# Altium footprint library PcbLib2.PcbLib: 16 footprints
Each footprint in its own frame and in the unit in brackets; x right, y up, seen from the top. Pads: shape width x height; smd on the part's side, far side on the other; paste and mask are expansions set on the pad; w line width, h text height; cw(c..) or ccw(c..) is an arc to the next point about the centre after c.
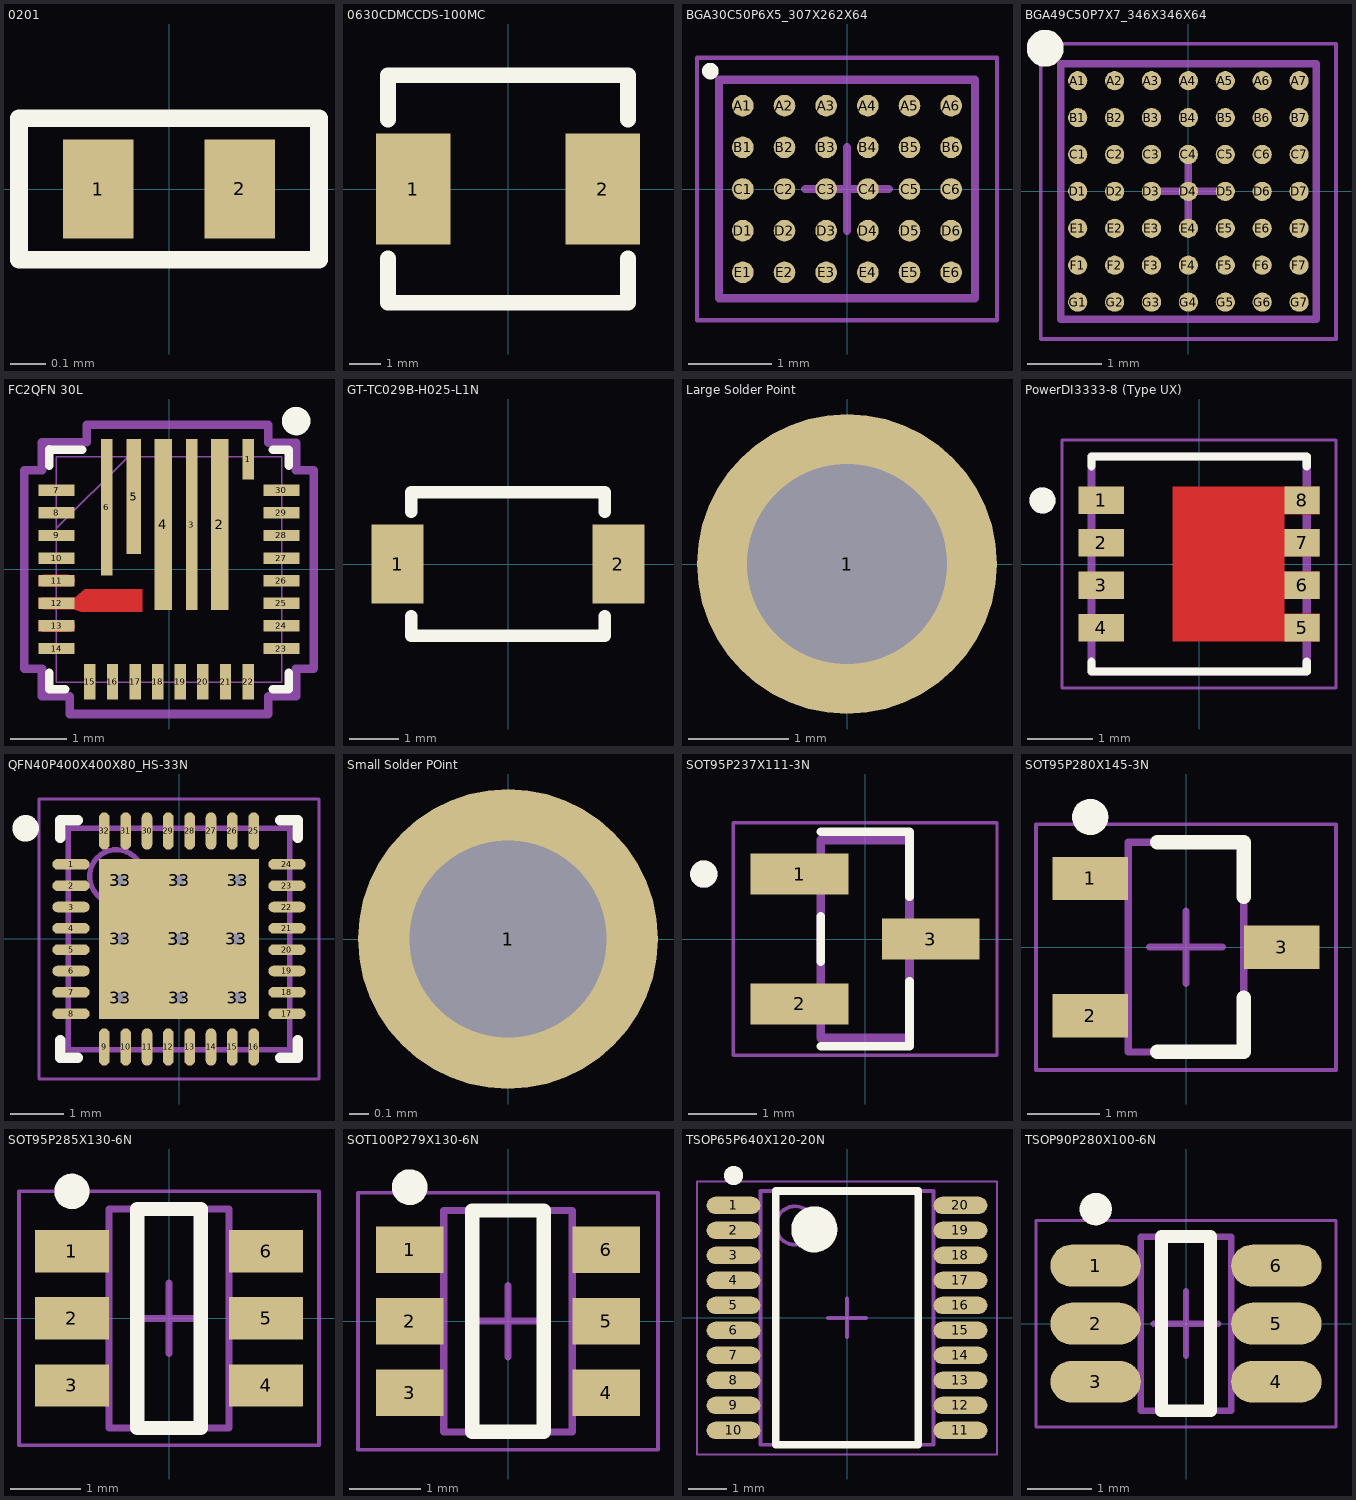
[diagram p0: the footprints below, top view; thin cyan lines are the x and y axes]

## 0201 [mm] "0201 Diode"
pads (2):
  rect 0.2x0.28 smd paste-2 mask+0.05: 1(-0.2,0) 2(0.2,0)
Top Overlay:
  lines w0.05: -0.425,-0.2 -0.425,0.2 0.425,0.2 0.425,-0.2 -0.425,-0.2
Top Paste:
  region: -0.329,0 -0.329,-0.025 -0.31,-0.072 -0.274,-0.108 -0.227,-0.127 -0.202,-0.127 -0.177,-0.127 -0.13,-0.108 -0.094,-0.072 -0.075,-0.025 -0.075,0 -0.075,0.025 -0.094,0.072 -0.13,0.108 -0.177,0.127 -0.202,0.127 -0.227,0.127 -0.274,0.108 -0.31,0.072 -0.329,0.025
  region: 0.073,-0.002 0.073,-0.027 0.092,-0.074 0.128,-0.11 0.175,-0.129 0.2,-0.129 0.225,-0.129 0.272,-0.11 0.308,-0.074 0.327,-0.027 0.327,-0.002 0.327,0.023 0.308,0.07 0.272,0.106 0.225,0.125 0.2,0.125 0.175,0.125 0.128,0.106 0.092,0.07 0.073,0.023
3D body: height 0.32, standoff 0, extent -0.312,-0.162 0.313,0.163

## 0630CDMCCDS-100MC [mm] "SMD,7x6.6x2.8mm"
pads (2):
  rect 2.35x3.5 smd: 1(-3,0) 2(3,0)
Top Overlay:
  lines w0.5: -3.8,-2.2 -3.8,-3.6 3.8,-3.6 3.8,-2.2 ; -3.8,2.2 -3.8,3.6 3.8,3.6 3.8,2.2
3D body: height 3, standoff 0, extent -3.5,-3.3 3.5,3.3

## BGA30C50P6X5_307X262X64 [mm] "BGA, 30-Leads, Body 3.07x2.62mmx0.64mm, Pitch 0.50mm"
height 0.64
pads (30):
  round 0.26 smd: A1(-1.25,1) A2(-0.75,1) A3(-0.25,1) A4(0.25,1) A5(0.75,1) A6(1.25,1) B1(-1.25,0.5) B2(-0.75,0.5) B3(-0.25,0.5) B4(0.25,0.5) B5(0.75,0.5) B6(1.25,0.5) C1(-1.25,0) C2(-0.75,0) C3(-0.25,0) C4(0.25,0) C5(0.75,0) C6(1.25,0) D1(-1.25,-0.5) D2(-0.75,-0.5) D3(-0.25,-0.5) D4(0.25,-0.5) D5(0.75,-0.5) D6(1.25,-0.5) E1(-1.25,-1) E2(-0.75,-1) E3(-0.25,-1) E4(0.25,-1) E5(0.75,-1) E6(1.25,-1)
Top Overlay:
  circle w0.1: c-1.64,1.415 r0.05
Mechanical 13:
  lines w0.1: -1.535,-1.31 1.535,-1.31 1.535,1.31 -1.535,1.31 -1.535,-1.31
Mechanical 15:
  lines w0.05: -1.8,-1.575 1.8,-1.575 1.8,1.575 -1.8,1.575 -1.8,-1.575
  lines w0.1: -0.5,0 0.5,0 ; 0,-0.5 0,0.5
3D body: height 0.64, standoff 0.24, extent -1.535,-1.31 1.535,1.31

## BGA49C50P7X7_346X346X64 [mm] "BGA, 49-Leads, Body 3.46x3.46mmx0.64mm, Pitch 0.50mm"
height 0.64
pads (49):
  round 0.26 smd: A1(-1.5,1.5) A2(-1,1.5) A3(-0.5,1.5) A4(0,1.5) A5(0.5,1.5) A6(1,1.5) A7(1.5,1.5) B1(-1.5,1) B2(-1,1) B3(-0.5,1) B4(0,1) B5(0.5,1) B6(1,1) B7(1.5,1) C1(-1.5,0.5) C2(-1,0.5) C3(-0.5,0.5) C4(0,0.5) C5(0.5,0.5) C6(1,0.5) C7(1.5,0.5) D1(-1.5,0) D2(-1,0) D3(-0.5,0) D4(0,0) D5(0.5,0) D6(1,0) D7(1.5,0) E1(-1.5,-0.5) E2(-1,-0.5) E3(-0.5,-0.5) E4(0,-0.5) E5(0.5,-0.5) E6(1,-0.5) E7(1.5,-0.5) F1(-1.5,-1) F2(-1,-1) F3(-0.5,-1) F4(0,-1) F5(0.5,-1) F6(1,-1) F7(1.5,-1) G1(-1.5,-1.5) G2(-1,-1.5) G3(-0.5,-1.5) G4(0,-1.5) G5(0.5,-1.5) G6(1,-1.5) G7(1.5,-1.5)
Top Overlay:
  circle w0.25: c-1.94,1.94 r0.125
Mechanical 13:
  lines w0.1: -1.73,-1.73 1.73,-1.73 1.73,1.73 -1.73,1.73 -1.73,-1.73
Mechanical 15:
  lines w0.05: -2,-2 2,-2 2,2 -2,2 -2,-2
  lines w0.1: -0.5,0 0.5,0 ; 0,-0.5 0,0.5
3D body: height 0.64, standoff 0.24, extent -1.73,-1.73 1.73,1.73

## FC2QFN 30L [mil]
pads (30):
  rect 8x28 smd: 1(55.12,76.75)
  rect 12x119 smd: 2(35.43,31.24) 4(-3.94,31.24)
  rect 8x119 smd: 3(15.75,31.24)
  rect 10x80 smd: 5(-24.61,50.73)
  rect 8x95 smd: 6(-43.31,43.25)
  rect 25x8 smd paste+0 mask+0: 7(-78.25,55.12) 8(-78.25,39.37) 9(-78.25,23.62) 10(-78.25,7.87) 14(-78.25,-55.12) 23(78.25,-55.12) 24(78.25,-39.37) 25(78.25,-23.62) 26(78.25,-7.87) 27(78.25,7.87) 28(78.25,23.62) 29(78.25,39.37) 30(78.25,55.12)
  rect 25x7.99 smd mask+0: 11(-78.25,-7.87) 12(-78.25,-23.62) 13(-78.25,-39.37)
  rect 8x25 smd paste+0 mask+0: 15(-55.12,-78.25) 16(-39.37,-78.25) 17(-23.62,-78.25) 18(-7.87,-78.25) 19(7.87,-78.25) 20(23.62,-78.25) 21(39.37,-78.25) 22(55.12,-78.25)
Top Layer:
  region: -90.75,-10.89 -90.75,-4.86 -87.8,-3.87 -69.69,-3.87 -68.9,-3.95 -68.15,-4.18 -67.46,-4.55 -66.86,-5.05 -66.36,-5.65 -65.99,-6.34 -65.76,-7.09 -65.69,-7.87 -65.76,-8.65 -65.99,-9.4 -66.36,-10.1 -66.86,-10.7 -67.46,-11.2 -68.15,-11.57 -68.9,-11.8 -69.69,-11.87 -87.8,-11.87
  region: -90.75,-42.39 -90.75,-36.35 -87.8,-35.37 -69.69,-35.37 -68.9,-35.45 -68.15,-35.67 -67.46,-36.04 -66.86,-36.54 -66.36,-37.15 -65.99,-37.84 -65.76,-38.59 -65.69,-39.37 -65.76,-40.15 -65.99,-40.9 -66.36,-41.59 -66.86,-42.2 -67.46,-42.7 -68.15,-43.07 -68.9,-43.29 -69.69,-43.37 -87.8,-43.37
  region: -90.75,-26.64 -90.75,-20.61 -87.8,-19.62 -65.63,-19.62 -58.74,-13.72 -18.5,-13.72 -18.5,-29.46 -61.38,-29.59 -66.61,-27.62 -87.8,-27.62
Top Overlay:
  circle w10: c88.58,103.35 r4.92
  lines w6: -83.5,-72.22 -83.5,-83.5 -72.22,-83.5 ; -83.5,72.22 -83.5,83.5 -60.41,83.47 ; 72.22,-83.5 83.5,-83.5 83.5,-72.22 ; 72.22,83.27 83.5,83.25 83.5,72.22
Top Paste:
  region: -90.75,-10.89 -90.75,-4.86 -87.8,-3.87 -69.69,-3.87 -68.9,-3.95 -68.15,-4.18 -67.46,-4.55 -66.86,-5.05 -66.36,-5.65 -65.99,-6.34 -65.76,-7.09 -65.69,-7.87 -65.76,-8.65 -65.99,-9.4 -66.36,-10.1 -66.86,-10.7 -67.46,-11.2 -68.15,-11.57 -68.9,-11.8 -69.69,-11.87 -87.8,-11.87
  region: -90.75,-26.64 -90.75,-20.61 -87.8,-19.62 -65.63,-19.62 -58.74,-13.72 -18.5,-13.72 -18.5,-29.46 -61.38,-29.59 -66.61,-27.62 -87.8,-27.62
  region: -90.75,-42.39 -90.75,-36.35 -87.8,-35.37 -69.69,-35.37 -68.9,-35.45 -68.15,-35.67 -67.46,-36.04 -66.86,-36.54 -66.36,-37.15 -65.99,-37.84 -65.76,-38.59 -65.69,-39.37 -65.76,-40.15 -65.99,-40.9 -66.36,-41.59 -66.86,-42.2 -67.46,-42.7 -68.15,-43.07 -68.9,-43.29 -69.69,-43.37 -87.8,-43.37
Top Solder:
  region: -90.75,-10.89 -90.75,-4.86 -87.8,-3.87 -69.69,-3.87 -68.9,-3.95 -68.15,-4.18 -67.46,-4.55 -66.86,-5.05 -66.36,-5.65 -65.99,-6.34 -65.76,-7.09 -65.69,-7.87 -65.76,-8.65 -65.99,-9.4 -66.36,-10.1 -66.86,-10.7 -67.46,-11.2 -68.15,-11.57 -68.9,-11.8 -69.69,-11.87 -87.8,-11.87
  region: -90.75,-26.64 -90.75,-20.61 -87.8,-19.62 -65.63,-19.62 -58.74,-13.72 -18.5,-13.72 -18.5,-29.46 -61.38,-29.59 -66.61,-27.62 -87.8,-27.62
  region: -90.75,-42.39 -90.75,-36.35 -87.8,-35.37 -69.69,-35.37 -68.9,-35.45 -68.15,-35.67 -67.46,-36.04 -66.86,-36.54 -66.36,-37.15 -65.99,-37.84 -65.76,-38.59 -65.69,-39.37 -65.76,-40.15 -65.99,-40.9 -66.36,-41.59 -66.86,-42.2 -67.46,-42.7 -68.15,-43.07 -68.9,-43.29 -69.69,-43.37 -87.8,-43.37
Mechanical 13:
  lines w1: -78.5,28.5 -28.5,78.5 ; -78.5,-78.5 78.5,-78.5 78.5,78.5 -78.5,78.5 -78.5,-78.5
Mechanical 15:
  lines w6: -29.31,100.73 -9.61,100.73 ; -29.31,100.73 -29.31,100.75 ; -29.31,100.75 -57.31,100.75 -57.31,88.46 -88.5,88.5 -88.5,69.12 -100.75,69.12 -100.75,-69.12 -88.5,-69.12 -88.5,-88.5 -69.12,-88.5 -69.12,-100.75 69.12,-100.75 69.12,-88.5 88.5,-88.5 88.5,-69.12 100.75,-69.12 100.75,69.12 88.5,69.12 88.5,88.25 69.12,88.28 69.12,100.75 51.43,100.75 ; -9.61,100.74 51.43,100.74 ; -9.61,100.73 -9.61,100.74 ; 51.43,100.74 51.43,100.75
3D body: height 10, standoff 0, extent 0,0 10,10
3D body: height 23.62, standoff 0, extent -78.5,-78.5 78.5,78.5

## GT-TC029B-H025-L1N [mm] "C843669 No NO SMDSplicing 50mA 3.9mm 100MO 100000 12V 250gf@±30gf 2.9mm -30?~+85? 2.5mm Black Round Button Brick nogging SPST SMD Tactile Switches ROHS"
height 2.6
pads (2):
  rect 1.05x1.6 smd: 1(-2.225,0) 2(2.225,0)
Top Overlay:
  lines w0.25: -1.95,-1.05 -1.95,-1.45 1.95,-1.45 1.95,-1.05 ; -1.95,1.05 -1.95,1.45 1.95,1.45 1.95,1.05

## Large Solder Point [mm]
pads (1):
  round 3 hole 2: 1(0,0)

## PowerDI3333-8 (Type UX) [mm]
pads (8):
  rect 0.7x0.42 smd: 1(-1.5,0.975) 2(-1.5,0.325) 3(-1.5,-0.325) 4(-1.5,-0.975)
  rect 0.54x0.42 smd: 5(1.58,-0.975) 6(1.58,-0.325) 7(1.58,0.325) 8(1.58,0.975)
Top Layer:
  region: 1.85,0.765 1.31,0.765 1.31,0.535 1.85,0.535 1.85,0.115 1.31,0.115 1.31,-0.115 1.85,-0.115 1.85,-0.535 1.31,-0.535 1.31,-0.765 1.85,-0.765 1.85,-1.185 -0.4,-1.185 -0.4,1.185 1.85,1.185
Top Overlay:
  circle w0.2: c-2.4,0.975 r0.1
  lines w0.127: -1.65,-1.499 -1.65,-1.65 1.65,-1.65 1.65,-1.499 ; -1.65,1.499 -1.65,1.65 1.65,1.65 1.65,1.499
Top Paste:
  region: 1,-0.9 -0.1,-0.9 -0.1,0.9 1,0.9
Top Solder:
  region: 1.41,-1.285 -0.5,-1.285 -0.5,1.285 1.41,1.285
Mechanical 13:
  circle w0.2: c-2.4,0.975 r0.1
  lines w0.127: -1.65,-1.65 -1.65,1.65 1.65,1.65 1.65,-1.65 -1.65,-1.65
Mechanical 15:
  lines w0.05: -2.1,-1.9 2.1,-1.9 2.1,1.9 -2.1,1.9 -2.1,-1.9

## QFN40P400X400X80_HS-33N [mm] "QFN, 32-Leads, Body 4.00x4.00mm, Pitch 0.40mm, Thermal Pad 3.00x3.00mm, IPC Medium Density"
height 0.8
pads (41):
  oval 0.7x0.2 smd mask+0.05: 1(-2.025,1.4) 2(-2.025,1) 3(-2.025,0.6) 4(-2.025,0.2) 5(-2.025,-0.2) 6(-2.025,-0.6) 7(-2.025,-1) 8(-2.025,-1.4) 17(2.025,-1.4) 18(2.025,-1) 19(2.025,-0.6) 20(2.025,-0.2) 21(2.025,0.2) 22(2.025,0.6) 23(2.025,1) 24(2.025,1.4)
  oval 0.2x0.7 smd mask+0.05: 9(-1.4,-2.025) 10(-1,-2.025) 11(-0.6,-2.025) 12(-0.2,-2.025) 13(0.2,-2.025) 14(0.6,-2.025) 15(1,-2.025) 16(1.4,-2.025) 25(1.4,2.025) 26(1,2.025) 27(0.6,2.025) 28(0.2,2.025) 29(-0.2,2.025) 30(-0.6,2.025) 31(-1,2.025) 32(-1.4,2.025)
  round 0.5 hole 0.2: 33(-1.1,-1.1) 33(-1.1,0) 33(-1.1,1.1) 33(0,-1.1) 33(0,1.1) 33(1.075,0) 33(1.1,-1.1) 33(1.1,1.1)
  rect 3x3 smd mask+0.05: 33(0,0)
via 0,0 diameter 0.5 hole 0.2
Top Overlay:
  circle w0.25: c-2.875,2.075 r0.125
  lines w0.2: -2.225,-1.9 -2.225,-2.225 -1.9,-2.225 ; -2.225,1.9 -2.225,2.225 -1.9,2.225 ; 1.9,-2.225 2.225,-2.225 2.225,-1.9 ; 1.9,2.225 2.225,2.225 2.225,1.9
Mechanical 13:
  circle w0.1: c-1.175,1.175 r0.5
  lines w0.1: -2.075,-2.075 -2.075,2.075 2.075,2.075 2.075,-2.075 -2.075,-2.075
Mechanical 15:
  lines w0.05: -2.625,-2.625 -2.625,2.625 2.625,2.625 2.625,-2.625 -2.625,-2.625
  lines w0.1: -0.5,0 0.5,0 ; 0,-0.5 0,0.5
3D body: height 0.8, standoff 0.05, extent -2.075,-2.075 2.075,2.075

## Small Solder POint [mil]
pads (1):
  round 60 hole 39.37: 1(0,0)

## SOT95P237X111-3N [mm]
pads (3):
  rect 1.43x0.6 smd: 1(-0.96,0.95) 2(-0.96,-0.95) 3(0.96,0)
Top Overlay:
  circle w0.2: c-2.36,0.95 r0.1
  lines w0.127: -0.65,-1.57 0.65,-1.57 0.65,-0.62 ; -0.65,-0.33 -0.65,0.33 ; -0.65,1.57 0.65,1.57 0.65,0.62
Mechanical 13:
  circle w0.2: c-2.36,0.95 r0.1
  lines w0.127: -0.65,-1.45 0.65,-1.45 0.65,1.45 -0.65,1.45 -0.65,-1.45
Mechanical 15:
  lines w0.05: -1.93,-1.7 1.93,-1.7 1.93,1.7 -1.93,1.7 -1.93,-1.7
3D body "step_temp.STEP": height 1.11, standoff 0, extent -1.2,-1.45 1.2,1.45

## SOT95P280X145-3N [mm] "SOT23, 3-Leads, Body 2.90x2.80mm, Pitch 0.95mm, IPC Medium Density"
height 1.45
pads (3):
  rect 1.05x0.6 smd: 1(-1.325,0.95) 2(-1.325,-0.95) 3(1.325,0)
Top Overlay:
  circle w0.25: c-1.325,1.8 r0.125
  lines w0.2: -0.4,-1.45 0.8,-1.45 0.8,-0.7 ; -0.4,1.45 0.8,1.45 0.8,0.7
Mechanical 13:
  lines w0.1: -0.8,-1.45 -0.8,1.45 0.8,1.45 0.8,-1.45 -0.8,-1.45
Mechanical 15:
  lines w0.05: -2.075,-1.7 -2.075,1.7 2.075,1.7 2.075,-1.7 -2.075,-1.7
  lines w0.1: -0.5,0 0.5,0 ; 0,-0.5 0,0.5
3D body: height 1.45, standoff 0.15, extent -0.8,-1.45 0.8,1.45

## SOT95P285X130-6N [mm] "SOT23, 6-Leads, Body 3.00x2.85mm, Pitch 0.95mm, IPC Medium Density"
height 1.3
pads (6):
  rect 1.05x0.6 smd: 1(-1.375,0.95) 2(-1.375,0) 3(-1.375,-0.95) 4(1.375,-0.95) 5(1.375,0) 6(1.375,0.95)
Top Overlay:
  circle w0.25: c-1.375,1.8 r0.125
  lines w0.2: -0.45,-1.55 0.45,-1.55 0.45,1.55 -0.45,1.55 -0.45,-1.55
Mechanical 13:
  lines w0.1: -0.85,-1.55 -0.85,1.55 0.85,1.55 0.85,-1.55 -0.85,-1.55
Mechanical 15:
  lines w0.05: -2.125,-1.8 -2.125,1.8 2.125,1.8 2.125,-1.8 -2.125,-1.8
  lines w0.1: -0.5,0 0.5,0 ; 0,-0.5 0,0.5
3D body: height 1.3, standoff 0.1, extent -0.85,-1.55 0.85,1.55

## SOT100P279X130-6N [mm] "SOT23, 6-Leads, Body 2.90x2.79mm, Pitch 1.00mm, IPC Medium Density"
height 1.3
pads (6):
  rect 0.95x0.65 smd: 1(-1.375,1) 2(-1.375,0) 3(-1.375,-1) 4(1.375,-1) 5(1.375,0) 6(1.375,1)
Top Overlay:
  circle w0.25: c-1.375,1.875 r0.125
  lines w0.2: -0.5,-1.55 0.5,-1.55 0.5,1.55 -0.5,1.55 -0.5,-1.55
Mechanical 13:
  lines w0.1: -0.9,-1.55 -0.9,1.55 0.9,1.55 0.9,-1.55 -0.9,-1.55
Mechanical 15:
  lines w0.05: -2.1,-1.8 -2.1,1.8 2.1,1.8 2.1,-1.8 -2.1,-1.8
  lines w0.1: -0.5,0 0.5,0 ; 0,-0.5 0,0.5
3D body: height 1.3, standoff 0, extent -0.9,-1.55 0.9,1.55

## TSOP65P640X120-20N [mm] "TSOP, 20-Leads, Body 6.50x4.40mm, Pitch 0.65mm, IPC Medium Density"
height 1.2
pads (20):
  oval 1.4x0.45 smd mask+0.05: 1(-2.95,2.925) 2(-2.95,2.275) 3(-2.95,1.625) 4(-2.95,0.975) 5(-2.95,0.325) 6(-2.95,-0.325) 7(-2.95,-0.975) 8(-2.95,-1.625) 9(-2.95,-2.275) 10(-2.95,-2.925) 11(2.95,-2.925) 12(2.95,-2.275) 13(2.95,-1.625) 14(2.95,-0.975) 15(2.95,-0.325) 16(2.95,0.325) 17(2.95,0.975) 18(2.95,1.625) 19(2.95,2.275) 20(2.95,2.925)
Top Overlay:
  circle w0.6: c-0.85,2.3 r0.3
  circle w0.25: c-2.95,3.7 r0.125
  lines w0.2: -1.85,-3.3 1.85,-3.3 1.85,3.3 -1.85,3.3 -1.85,-3.3
Mechanical 13:
  circle w0.1: c-1.35,2.4 r0.5
  lines w0.1: -2.25,-3.3 2.25,-3.3 2.25,3.3 -2.25,3.3 -2.25,-3.3
Mechanical 15:
  lines w0.05: -3.9,-3.55 3.9,-3.55 3.9,3.55 -3.9,3.55 -3.9,-3.55
  lines w0.1: -0.5,0 0.5,0 ; 0,-0.5 0,0.5
3D body: height 1.2, standoff 0.05, extent -2.25,-3.3 2.25,3.3

## TSOP90P280X100-6N [mm] "TSOP, 6-Leads, Body 2.90x1.60mm, Pitch 0.90mm, IPC Medium Density"
height 1
pads (6):
  oval 1.4x0.65 smd: 1(-1.4,0.9) 2(-1.4,0) 3(-1.4,-0.9) 4(1.4,-0.9) 5(1.4,0) 6(1.4,0.9)
Top Overlay:
  circle w0.25: c-1.4,1.775 r0.125
  lines w0.2: -0.381,-1.35 -0.381,1.35 0.381,1.35 0.381,-1.35 -0.381,-1.35
Mechanical 13:
  lines w0.1: -0.7,-1.35 -0.7,1.35 0.7,1.35 0.7,-1.35 -0.7,-1.35
Mechanical 15:
  lines w0.05: -2.325,-1.6 -2.325,1.6 2.325,1.6 2.325,-1.6 -2.325,-1.6
  lines w0.1: -0.5,0 0.5,0 ; 0,-0.5 0,0.5
3D body: height 1, standoff 0.1, extent -0.7,-1.35 0.7,1.35